# Altium schematic symbol library SHT30-DIS-B10KS.SchLib: 1 symbol
Pins are listed as number, name and electrical type; pins without a type are passive.

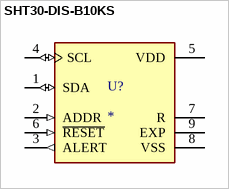
[diagram p0: symbol SHT30-DIS-B10KS]

## SHT30-DIS-B10KS
designator U?
SENSOR HUMID/TEMP 5V I2C 2% SMD; MP: SHT30-DIS-B10KS; Package: None; Price: None; Value: *; Availability: Unavailable
footprint XDCR_SHT30-DIS-B10KS
pins: 1 SDA (io), 2 ADDR (in), 3 ALERT (out), 4 SCL (io), 5 VDD (power), 6 ~{RESET} (in), 7 R, 8 VSS (power), 9 EXP